# Altium integrated library CRCW0603220RJNEBC.IntLib: 1 symbol
Pins are listed as number, name and electrical type; pins without a type are passive.

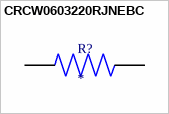
[diagram p0: symbol CRCW0603220RJNEBC]

## CRCW0603220RJNEBC
designator R?
Res Thick Film 0603 220 Ohm 5% 0.1W(1/10W) Â±200ppm/Â°C Pad SMD T/R; MF: Vishay; MP: CRCW0603220RJNEBC; SnapEDA_Link: https://www.snapeda.com/parts/CRCW0603220RJNEBC/Vishay/view-part/?ref=snap; Package: 0603-2 Vishay; Value: *; Check_prices: https://www.snapeda.com/parts/CRCW0603220RJNEBC/Vishay/view-part/?ref=eda
footprint RESC1608X55N
pins: 1, 2